# EAGLE library part LMV342 (library texas_instruments)
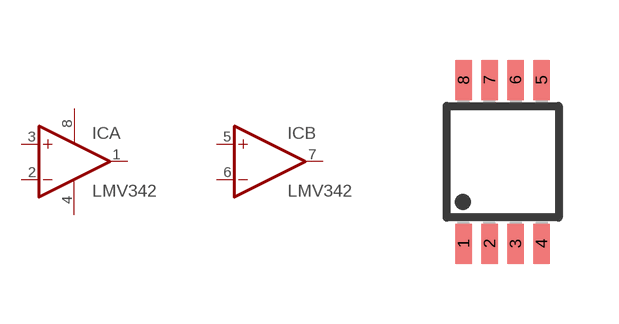
[diagram p0: symbol with the pads of MSOP8; footprint MSOP8]

Designator prefix IC; gates A=OPAMP B=OPAMP G$3=PWR+-

## LMV342  [MSOP8]
1  A:OUT  out
2  A:-IN  in
3  A:+IN  in
4  G$3:V-  pwr
5  B:+IN  in
6  B:-IN  in
7  B:OUT  out
8  G$3:V+  pwr

## Footprint MSOP8 (pad centres in mm)
Micro Small Outline Package
smd 0.42 x 1: 1 -0.975,-2.05; 2 -0.325,-2.05; 3 0.325,-2.05; 4 0.975,-2.05; 5 0.975,2.05; 6 0.325,2.05; 7 -0.325,2.05; 8 -0.975,2.05